# Altium footprint library Kill_Switch_Testing.PcbLib: 3 footprints
Each footprint in its own frame and in the unit in brackets; x right, y up, seen from the top. Pads: shape width x height; smd on the part's side, far side on the other; paste and mask are expansions set on the pad; w line width, h text height; cw(c..) or ccw(c..) is an arc to the next point about the centre after c.
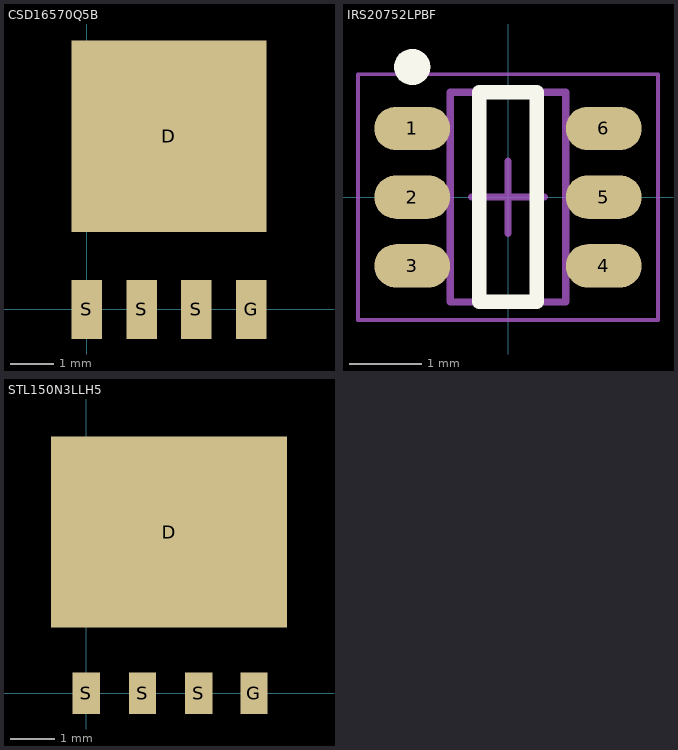
[diagram p0: the footprints below, top view; thin cyan lines are the x and y axes]

## CSD16570Q5B [mm] "25-V N-Channel NexFET™ Power MOSFET"
pads (5):
  rect 4.52x4.44 smd: D(1.9,4.01)
  rect 0.71x1.372 smd: G(3.81,0) S(0,0) S(1.27,0) S(2.54,0)

## IRS20752LPBF [mm] "SOT-23 High-Side Gate Driver IC"
height 1.45
pads (6):
  oval 1.05x0.6 smd: 1(-1.325,0.95) 2(-1.325,0) 3(-1.325,-0.95) 4(1.325,-0.95) 5(1.325,0) 6(1.325,0.95)
Top Overlay:
  circle w0.25: c-1.325,1.8 r0.125
  lines w0.2: -0.4,-1.45 0.4,-1.45 0.4,1.45 -0.4,1.45 -0.4,-1.45
Mechanical 13:
  lines w0.1: -0.8,-1.45 0.8,-1.45 0.8,1.45 -0.8,1.45 -0.8,-1.45
Mechanical 15:
  lines w0.05: -2.075,-1.7 2.075,-1.7 2.075,1.7 -2.075,1.7 -2.075,-1.7
  lines w0.1: -0.5,0 0.5,0 ; 0,-0.5 0,0.5
3D body: height 1.45, standoff 0.15, extent -0.8,-1.45 0.8,1.45

## STL150N3LLH5 [mm] "N-channel 30 V, 0.0014 ? typ., 35 A STripFET™ V Power MOSFET"
pads (5):
  rect 5.35x4.33 smd: D(1.875,3.65)
  rect 0.62x0.94 smd: G(3.8,0) S(0,0) S(1.275,0) S(2.55,0)